# Altium footprint library PCB - CONNECTOR - SULLINS - SULLINS NPPN061BFLD-RC.PcbLib: 1 footprints
Each footprint in its own frame and in the unit in brackets; x right, y up, seen from the top. Pads: shape width x height; smd on the part's side, far side on the other; paste and mask are expansions set on the pad; w line width, h text height; cw(c..) or ccw(c..) is an arc to the next point about the centre after c.
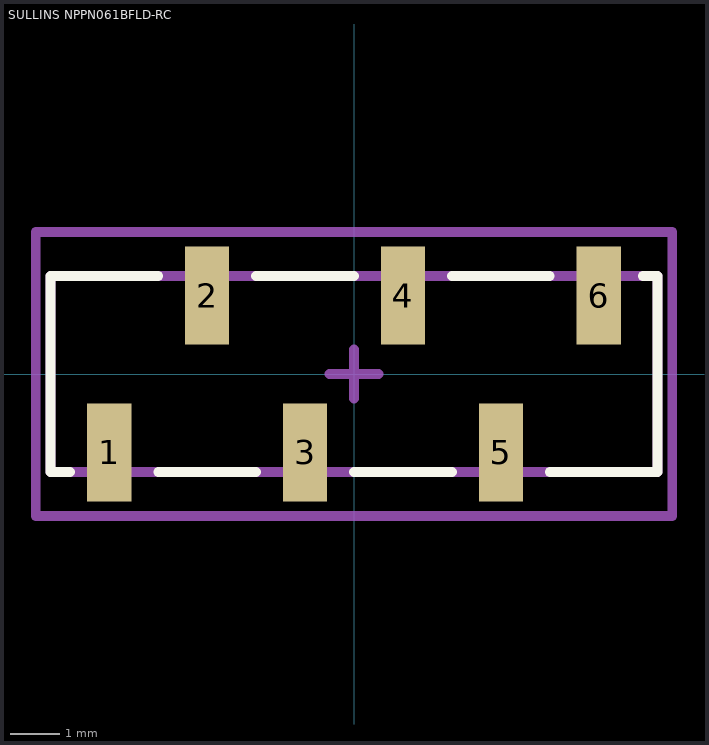
[diagram p0: the footprint, top view; thin cyan lines are the x and y axes]

## SULLINS NPPN061BFLD-RC [mm] "6 Position Header Connector 0.079\" (2.00mm) Surface Mount Gold"
height 4.85
pads (6):
  rect 0.9x2 smd: 1(-5,-1.6) 2(-3,1.6) 3(-1,-1.6) 4(1,1.6) 5(3,-1.6) 6(5,1.6)
Top Overlay:
  lines w0.2: -5.8,-2 -6.2,-2 -6.2,2 -4,2 ; -4,-2 -2,-2 ; -2,2 0,2 ; 0,-2 2,-2 ; 2,2 4,2 ; 4,-2 6.2,-2 6.2,2 5.9,2
Top Component Outline:
  lines w0.2: -6.2,-2 6.2,-2 6.2,2 -6.2,2 -6.2,-2
Top Courtyard (Mech15):
  lines w0.2: -0.5,0 0.5,0 ; 0,-0.5 0,0.5 ; -6.5,-2.9 6.5,-2.9 6.5,2.9 -6.5,2.9 -6.5,-2.9
3D body "Sullins NPPN061BFLD-RC.step": height 4.6, standoff 0, extent -6.25,-1.998 6.25,1.998